# EAGLE library part ENC28J60-I/SP (library 473)
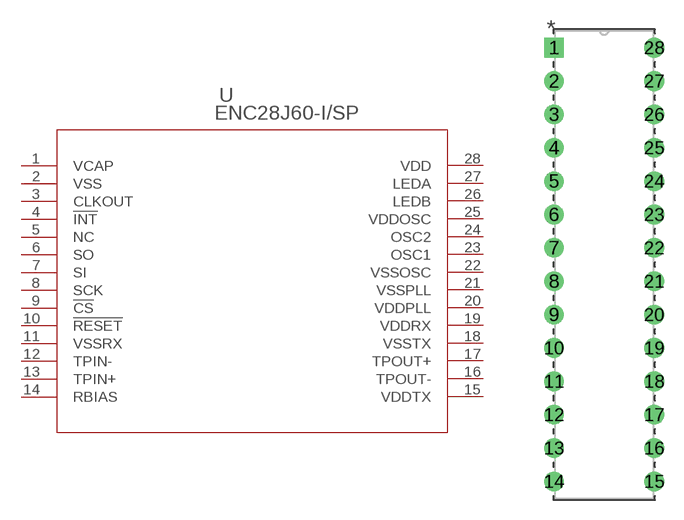
[diagram p1: symbol with the pads of SPDIP28_300MC_MCH; footprint SPDIP28_300MC_MCH]

Designator prefix U

## ENC28J60-I/SP (COPYRIGHT: Copyright (C) 2022 Ultra Librarian. All rights reserved.; MANUFACTURER_PART_NUMBER: ENC28J60-I/SP; MFR_NAME: Microchip)  [SPDIP28_300MC_MCH]
1  VCAP  pas
2  VSS  pas
3  CLKOUT  pas
4  !INT  pas
5  NC  pas
6  SO  pas
7  SI  pas
8  SCK  pas
9  !CS  pas
10  !RESET  pas
11  VSSRX  pas
12  TPIN-  pas
13  TPIN+  pas
14  RBIAS  pas
15  VDDTX  pas
16  TPOUT-  pas
17  TPOUT+  pas
18  VSSTX  pas
19  VDDRX  pas
20  VDDPLL  pas
21  VSSPLL  pas
22  VSSOSC  pas
23  OSC1  pas
24  OSC2  pas
25  VDDOSC  pas
26  LEDB  pas
27  LEDA  pas
28  VDD  pas

## Footprint SPDIP28_300MC_MCH (pad centres in mm)
drill 0.991 pad 1.499 square: 1 0,0
drill 0.991 pad 1.499: 2 0,-2.54; 3 0,-5.08; 4 0,-7.62; 5 0,-10.16; 6 0,-12.7; 7 0,-15.24; 8 0,-17.78; 9 0,-20.32; 10 0,-22.86; 11 0,-25.4; 12 0,-27.94; 13 0,-30.48; 14 0,-33.02; 15 7.62,-33.02; 16 7.62,-30.48; 17 7.62,-27.94; 18 7.62,-25.4; 19 7.62,-22.86; 20 7.62,-20.32; 21 7.62,-17.78; 22 7.62,-15.24; 23 7.62,-12.7; 24 7.62,-10.16; 25 7.62,-7.62; 26 7.62,-5.08; 27 7.62,-2.54; 28 7.62,0